# EAGLE library part CAT24M01 (library cat24m01)
Serial EEPROM 1Mbit (128KB)
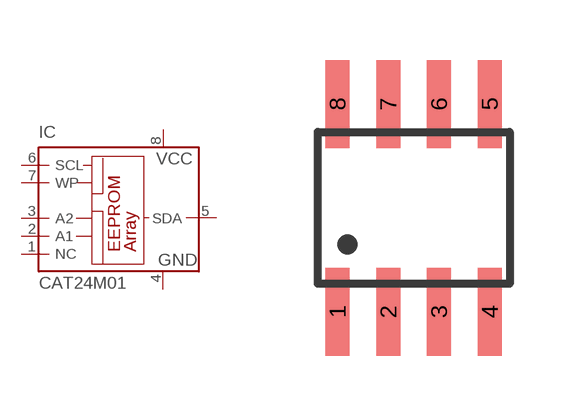
[diagram p0: symbol with the pads of SOIC; footprint SOIC]

Designator prefix IC

## CAT24M01  [SOIC]
1  NC  in
2  A1  in
3  A2  in
4  GND  pwr
5  SDA
6  SCL  in
7  WP  in
8  VCC  pwr

## Footprint SOIC (pad centres in mm)
SOIC 8, 150 mils SOIC−8, X SUFFIX, CASE 751BE
smd 0.6 x 2.2: 1 -1.905,-2.6; 2 -0.635,-2.6; 3 0.635,-2.6; 4 1.905,-2.6; 5 1.905,2.6; 6 0.635,2.6; 7 -0.635,2.6; 8 -1.905,2.6